# EAGLE library part SW_1P6T_CK (library wheat)
Switch, rotary, 1P6T Lorlin CK series
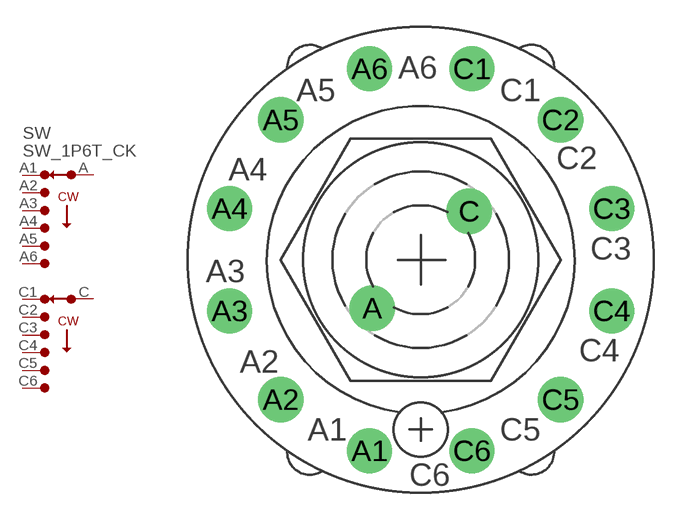
[diagram p124: symbol with the pads of SW_LORLIN_2P6T; footprint SW_LORLIN_2P6T]

Designator prefix SW

## SW_1P6T_CK  [SW_LORLIN_2P6T]
A  AC  pas
A1  A1  pas
A2  A2  pas
A3  A3  pas
A4  A4  pas
A5  A5  pas
A6  A6  pas
C  BC  pas
C1  B1  pas
C2  B2  pas
C3  B3  pas
C4  B4  pas
C5  B5  pas
C6  B6  pas

## Footprint SW_LORLIN_2P6T (pad centres in mm)
Switch, Lorlin CK series, 2P 6T
drill 1.5 pad 2.54: A -2.72,-2.72; A1 -2.87,-10.72; A2 -7.85,-7.85; A3 -10.72,-2.87; A4 -10.72,2.87; A5 -7.85,7.85; A6 -2.87,10.72; C 2.72,2.72; C1 2.87,10.72; C2 7.85,7.85; C3 10.72,2.87; C4 10.72,-2.87; C5 7.85,-7.85; C6 2.87,-10.72